# EAGLE library part AD5424 (library ICs)
Digital to Analogue Converter, 8 bit, 20.4 MSPS, Parallel, 2.5V to 5.5V, TSSOP, 16 Pins
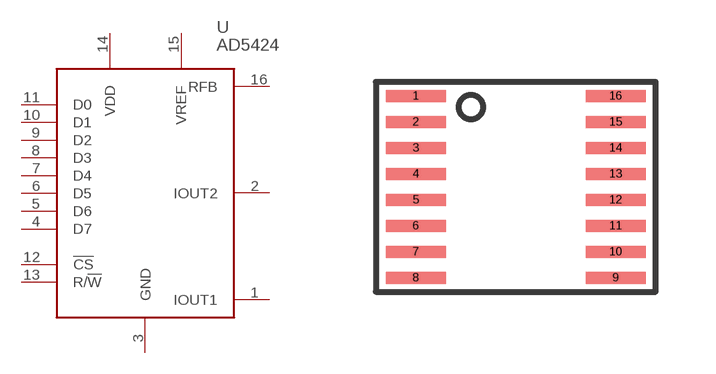
[diagram p116: symbol with the pads of SSOP16-4.5MM; footprint SSOP16-4.5MM]

Designator prefix U

## AD5424 (FARNELL: 1581918; PRICE_PER: 3.30; VALUE: AD5424)  [SSOP16-4.5MM]
1  IOUT1
2  IOUT2
3  GND
4  D7
5  D6
6  D5
7  D4
8  D3
9  D2
10  D1
11  D0
12  !CS
13  R/!W
14  VDD
15  VREF
16  RFB

## Footprint SSOP16-4.5MM (pad centres in mm)
smd 1.5 x 0.3: 1 -2.5,2.275; 2 -2.5,1.625; 3 -2.5,0.975; 4 -2.5,0.325; 5 -2.5,-0.325; 6 -2.5,-0.975; 7 -2.5,-1.625; 8 -2.5,-2.275; 9 2.5,-2.275; 10 2.5,-1.625; 11 2.5,-0.975; 12 2.5,-0.325; 13 2.5,0.325; 14 2.5,0.975; 15 2.5,1.625; 16 2.5,2.275